# Altium footprint library PcbLib1.PcbLib: 26 footprints (part 1 of 2)
Each footprint in its own frame and in the unit in brackets; x right, y up, seen from the top. Pads: shape width x height; smd on the part's side, far side on the other; paste and mask are expansions set on the pad; w line width, h text height; cw(c..) or ccw(c..) is an arc to the next point about the centre after c.
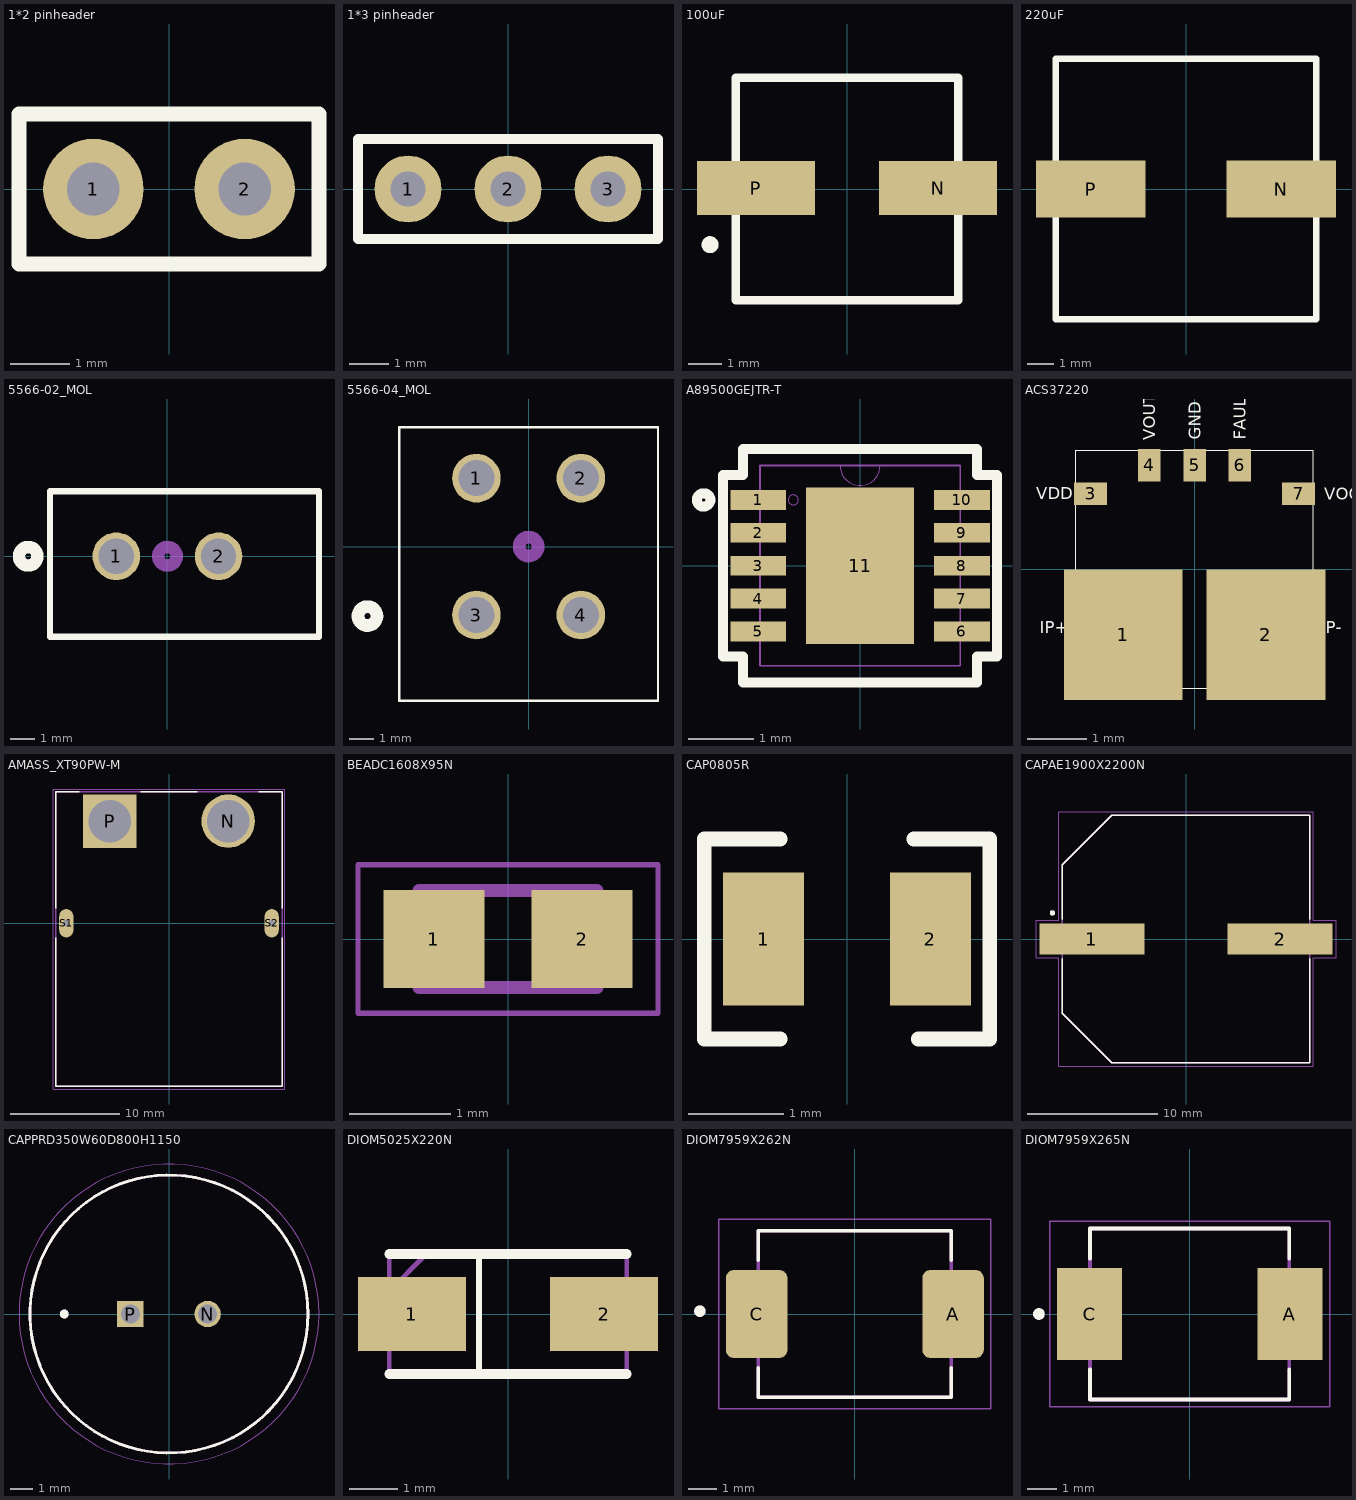
[diagram p0: the footprints below, top view; thin cyan lines are the x and y axes]

## 1*2 pinheader [mm]
pads (2):
  round 1.7 hole 0.89: 1(-1.28,0) 2(1.28,0)
Top Overlay:
  lines w0.254: -2.54,-1.27 2.54,-1.27 2.54,1.27 -2.54,1.27 -2.54,-1.27
3D body "2-Pin Header - Male - 2.54mm.step": height 8.89, standoff -3.05, extent -2.55,-1.27 2.53,1.27

## 1*3 pinheader [mm]
pads (3):
  round 1.7 hole 0.89: 1(-2.54,0) 2(0,0) 3(2.54,0)
Top Overlay:
  lines w0.254: -3.81,-1.27 3.81,-1.27 3.81,1.27 -3.81,1.27 -3.81,-1.27
3D body "3-Pin Header - Male - 2.54mm.step": height 8.89, standoff -3.05, extent -3.81,-1.27 3.81,1.27

## 100uF [mm] "[SAMYOUNG] SMD E/C 35V 100uF (105℃)/6.3 Ø x8mm"
pads (2):
  rect 3.5x1.6 smd: N(2.7,0.028) P(-2.7,0.028)
Top Overlay:
  circle w0.25: c-4.064,-1.651 r0.127
  lines w0.254: -3.3,-3.3 3.3,-3.3 3.3,3.3 -3.3,3.3 -3.3,-3.3
3D body "SMD EC 35V 100uF (105℃)6.3 Ø x8mm.step": height 6.63, standoff 0.07, extent -3.3,-3.298 3.3,3.302

## 220uF [mm] "[SAMYOUNG] SMD E/C 35V 220uF (85℃)/8Ø x10mm"
pads (2):
  rect 4.2x2.2 smd: N(3.65,0) P(-3.65,0)
Top Overlay:
  lines w0.254: -5,-5 5,-5 5,5 -5,5 -5,-5
3D body "220uF 35V.STEP": height 10.51, standoff 0, extent -4.75,-4.15 4.75,4.15

## 5566-02_MOL [mil]
pads (2):
  round 77 / inner round 60 / far side round 77 hole 57 paste-99999 mask+0: 1(-82.68,0) 2(82.68,0)
Top Overlay:
  circle w20: c-225,0 r15
  lines w10: -190,-130 245,-130 245,105 -190,105 -190,-130
Bottom Overlay:
  circle w20: c-225,0 r15
Mechanical 13:
  circle w20: c0,0 r15
3D body "5566-02A _ 3928-1023.STEP": height 503.94, standoff -108.5, extent -190,-126.15 245.12,106.3

## 5566-04_MOL [mil]
pads (4):
  round 77 / inner round 60 / far side round 77 hole 57 paste-99999 mask+0: 1(-82.68,108.27) 2(82.68,108.27) 3(-82.68,-108.27) 4(82.68,-108.27)
Top Overlay:
  circle w20: c-255,-110 r15
  lines w3.94: -204.72,-244.09 204.72,-244.09 204.72,188.98 -204.72,188.98 -204.72,-244.09
Bottom Overlay:
  circle w20: c-255,-110 r15
Mechanical 13:
  circle w20: c0,0 r15
3D body "039288040.stp": height 503.94, standoff -137.8, extent -204.61,-244.09 204.72,188.98

## A89500GEJTR-T [mm]
pads (11):
  rect 0.85x0.3 smd paste+0 mask+0: 1(-1.55,1) 2(-1.55,0.5) 3(-1.55,0) 4(-1.55,-0.5) 5(-1.55,-1) 6(1.55,-1) 7(1.55,-0.5) 8(1.55,0) 9(1.55,0.5) 10(1.55,1)
  rect 1.64x2.38 smd paste+0 mask+0: 11(0,0)
Top Overlay:
  circle w0.152: c-2.38,1 r0.102
  lines w0.152: -2.083,-1.381 -1.778,-1.381 -1.778,-1.778 1.778,-1.778 1.778,-1.381 2.083,-1.381 2.083,1.381 1.778,1.381 1.778,1.778 -1.778,1.778 -1.778,1.381 -2.083,1.381 -2.083,-1.381
Mechanical 13:
  circle w0: c-1.016,1 r0.076
  lines w0: -0.305,1.524 ccw(c0,1.524) 0.305,1.524
  lines w0.025: -1.524,-1.524 1.524,-1.524 1.524,1.524 -1.524,1.524 -1.524,-1.524
3D body "SON10_A89500GEJTR-T_ALM.step": height 0.81, standoff 0, extent -1.524,-1.524 1.524,1.524

## ACS37220 [mm]
pads (7):
  rect 2x2.2 smd: 1(-1.2,-1.1) 2(1.2,-1.1)
  rect 0.55x0.38 smd: 3(-1.75,1.27) 7(1.75,1.27)
  rect 0.38x0.55 smd: 4(-0.76,1.75) 5(0,1.75) 6(0.76,1.75)
Top Overlay:
  lines w0.013: -2,-2 2,-2 2,2 -2,2 -2,-2
  text "VDD" at -2.667,1.183 h0.2
  text "VOUT" at -0.661,2.173 h0.2
  text "GND" at 0.101,2.18 h0.2
  text "FAULT" at 0.862,2.18 h0.2
  text "VOC" at 2.179,1.168 h0.2
  text "IP+" at -2.607,-1.071 h0.2
  text "IP-" at 2.121,-1.074 h0.2
3D body "ACS37220.step": height 1.63, standoff 0, extent -2,-2 2,2

## AMASS_XT90PW-M [mm]
pads (4):
  round 4.916 hole 3.9: N(5.45,9.4)
  rect 4.916x4.916 / inner round 4.916 / far side rect 4.916x4.916 hole 3.9: P(-5.45,9.4)
  oval 1.3x2.6 hole 0.6 square: S1(-9.45,0) S2(9.45,0)
Top Overlay:
  lines w0.127: -10.4,-1.35 -10.4,-15 10.4,-15 10.4,-1.35 ; -10.4,1.4 -10.4,12.1 -8.25,12.1 ; -2.6,12.1 2.6,12.1 ; 8.25,12.1 10.4,12.1 10.4,1.4
Mechanical 13:
  lines w0.127: -10.4,-15 -10.4,12.1 10.4,12.1 10.4,-15 -10.4,-15
Mechanical 15:
  lines w0.05: -10.65,-15.25 -10.65,12.35 10.65,12.35 10.65,-15.25 -10.65,-15.25
3D body "step_temp.STEP": height 10.3, standoff -3.2, extent -10.6,-15 10.6,12.1

## BEADC1608X95N [mm]
pads (2):
  rect 1x0.97 smd: 1(-0.735,0) 2(0.735,0)
Mechanical 13:
  lines w0.127: -0.88,-0.48 -0.88,0.48 0.88,0.48 0.88,-0.48 -0.88,-0.48
Mechanical 15:
  lines w0.05: -1.485,-0.735 -1.485,0.735 1.485,0.735 1.485,-0.735 -1.485,-0.735
3D body "FILTER_BLM18AG_MUR.step": height 0.94, standoff 0, extent -0.876,-0.47 0.876,0.47

## CAP0805R [mm] "capacitor 0805 reflow soldering"
pads (2):
  rect 0.85x1.4 smd: 1(-0.875,0) 2(0.875,0)
Top Overlay:
  lines w0.152: -0.7,-1.05 -1.5,-1.05 -1.5,1.05 -0.7,1.05 ; 0.7,1.05 1.5,1.05 1.5,-1.05 0.75,-1.05
3D body "CAP0805.stp": height 0.78, standoff 0, extent -1,-0.625 1,0.625

## CAPAE1900X2200N [mm]
height 22
pads (2):
  rect 8.06x2.41 smd: 1(-7.225,0) 2(7.225,0)
Top Overlay:
  circle w0.2: c-10.25,2 r0.1
  lines w0.127: -9.5,-1.525 -9.5,-5.7 -5.7,-9.5 9.5,-9.5 9.5,-1.525 ; -9.5,1.525 -9.5,5.7 -5.7,9.5 9.5,9.5 9.5,1.525
Mechanical 13:
  circle w0.2: c-10.25,2 r0.1
  lines w0.127: -9.5,-5.7 -9.5,5.7 -5.7,9.5 9.5,9.5 9.5,-9.5 -5.7,-9.5 -9.5,-5.7
Mechanical 15:
  lines w0.05: -11.505,-1.445 -9.75,-1.445 -9.75,-9.75 9.75,-9.75 9.75,-1.445 11.505,-1.445 11.505,1.445 9.75,1.445 9.75,9.75 -9.75,9.75 -9.75,1.445 -11.505,1.445 -11.505,-1.445
3D body "step_temp.STEP": height 22, standoff 0, extent -10.5,-9.5 10.5,9.5

## CAPPRD350W60D800H1150 [mm]
pads (2):
  round 1.2 hole 0.85: N(1.75,0)
  rect 1.2x1.2 hole 0.85: P(-1.75,0)
Top Overlay:
  circle w0.127: c0,0 r6.3
  circle w0.2: c-4.75,0 r0.1
Mechanical 13:
  circle w0.2: c-4.75,0 r0.1
  circle w0.127: c0,0 r6.3
Mechanical 15:
  circle w0.05: c0,0 r6.8
3D body "step_temp.STEP": height 11.5, standoff -17, extent -4,-4 4,4

## DIOM5025X220N [mm]
pads (2):
  rect 2.25x1.55 smd: 1(-2,0) 2(2,0)
Top Overlay:
  lines w0.127: -0.6,-1.2 -0.6,1.2
  lines w0.2: -2.475,-1.25 2.475,-1.25 ; -2.475,1.25 2.475,1.25
Mechanical 13:
  lines w0.1: -2.475,0.475 -1.7,1.25 ; -2.475,-1.25 -2.475,1.25 2.475,1.25 2.475,-1.25 -2.475,-1.25
3D body "step_temp.STEP": height 2.2, standoff 0, extent -2.475,-1.25 2.475,1.25

## DIOM7959X262N [mm]
height 2.62
pads (2):
  rrect25% 2.18x3.12 smd: A(3.485,0) C(-3.485,0)
Top Overlay:
  circle w0.2: c-5.5,0.1 r0.1
  lines w0.127: -3.427,-1.9 -3.427,-2.953 3.427,-2.953 3.427,-1.9 ; -3.427,1.9 -3.427,2.953 3.427,2.953 3.427,1.9
Mechanical 13:
  circle w0.2: c-5.5,0.1 r0.1
  lines w0.127: -3.427,-2.953 -3.427,2.953 3.427,2.953 3.427,-2.953 -3.427,-2.953
Mechanical 15:
  lines w0.05: -4.83,-3.36 -4.83,3.36 4.83,3.36 4.83,-3.36 -4.83,-3.36
3D body "step_temp.STEP": height 2.65, standoff 0, extent -3.97,-2.95 3.97,2.95

## DIOM7959X265N [mm]
height 2.65
pads (2):
  rect 2.25x3.18 smd paste+0 mask+0.102: A(3.455,0) C(-3.455,0)
Top Overlay:
  circle w0.2: c-5.2,0 r0.1
  lines w0.127: -3.437,-1.91 -3.437,-2.95 3.437,-2.95 3.437,-1.91 ; -3.437,1.91 -3.437,2.95 3.437,2.95 3.437,1.91
Mechanical 13:
  circle w0.2: c-5.2,0 r0.1
  lines w0.127: -3.437,-2.95 -3.437,2.95 3.437,2.95 3.437,-2.95 -3.437,-2.95
Mechanical 15:
  lines w0.05: -4.83,-3.2 4.83,-3.2 4.83,3.2 -4.83,3.2 -4.83,-3.2
3D body "step_temp.STEP": height 2.18, standoff -0.02, extent -3.963,-2.879 3.937,2.921